# EAGLE library part MINIDIN_6 (library connectors-digital)
Miniature chassis socket, right angle version, shielded, for printed circuit boards TM0504 6 A Parameters 1. Temperaturbereich -25 °C/+85 °C 2. Materials Body PBT, V0 according to UL 94 Contact bush CuSn, flash gilded in contact area, silvered/tinned in solder area Housing CuZn, tinned 3. Mechanical data Insertion force 10–50 N Withdrawal force 8–35 N Mating cycles ≥ 1000 Mating with miniature plug MP-371 4. Electrical data Contact resistance ≤ 50 mΩ Rated current ≤ 1 A (AC), ≤ 2 A (DC) Rated voltage ≤ 100 V AC, ≤ 12 V DC Test voltage 500 V AC/60 s Insulation resistance 100 MΩ
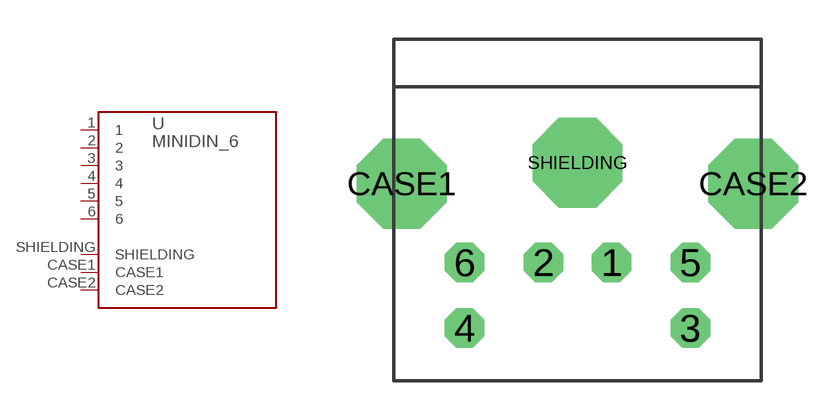
[diagram p3: symbol with the pads of MINIDIN_6_3GND; footprint MINIDIN_6_3GND]

Designator prefix -

## MINIDIN_6 (MPN: TM 0508 A/6; OC_FARNELL: 1200113; PACKAGE: SHIELDED; SUPPLIER: LUMBERG)  [MINIDIN_6_3GND]
1  1
2  2
3  3
4  4
5  5
6  6
CASE1  CASE1
CASE2  CASE2
SHIELDING  SHIELDING

## Footprint MINIDIN_6_3GND (pad centres in mm)
drill 1 octagon: 1 1.3,-8.5; 2 -1.3,-8.5; 3 4.3,-11; 4 -4.3,-11; 5 4.3,-8.5; 6 -4.3,-8.5
drill 2.4 octagon: CASE1 -6.7,-5.5; CASE2 6.7,-5.5; SHIELDING 0,-4.7